# Altium schematic symbol library NX5032GA.SchLib: 1 symbol
Pins are listed as number, name and electrical type; pins without a type are passive.

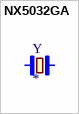
[diagram p0: symbol NX5032GA]

## NX5032GA
designator Y
16MHz Â±50ppm Crystal 8pF 120 Ohms 2-SMD, No Lead; MP: NX5032GA; MF: NDK America,; Price: None; SnapEDA_Link: https://www.snapeda.com/parts/NX5032GA/NDK%20America%2C%20Inc./view-part/511653/?ref=snap; Package: SMD-2 NDK America,; Value: *; Availability: Unavailable
footprint 2-SMD-5X3
pins: 1, 2